# Altium schematic symbol library SCH - CONNECTORS - TE 9-966140-2.Schlib: 1 symbol
Pins are listed as number, name and electrical type; pins without a type are passive.

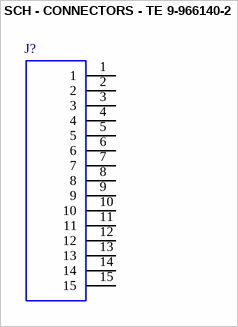
[diagram p0: symbol SCH - CONNECTORS - TE 9-966140-2]

## SCH - CONNECTORS - TE 9-966140-2
designator J?
footprint *TE_9-966140-2
footprint TE_9-966140-2
pins: 1, 2, 3, 4, 5, 6, 7, 8, 9, 10, 11, 12, 13, 14, 15